# EAGLE library part LM293D (library LM293D)
Check availability <https://pricing.snapeda.com/parts/LM293D/Texas%20Instruments/view-part?ref=eda>
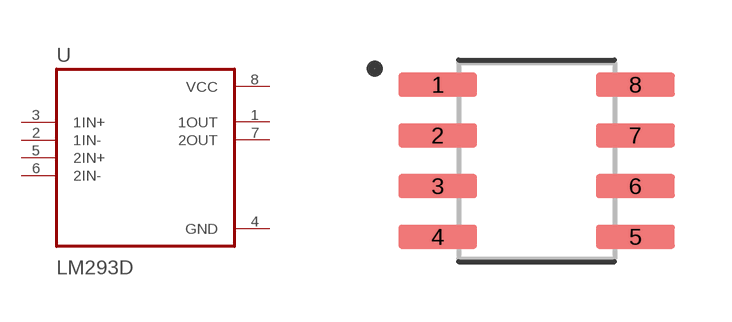
[diagram p0: symbol with the pads of SOIC127P599X175-8N; footprint SOIC127P599X175-8N]

Designator prefix U

## LM293D (Availability: In Stock; Description: Dual differential comparator, industrial grade; MF: Texas Instruments; MP: LM293D; Package: SOIC-8 Texas Instruments; Price: None; Purchase-URL: https://pricing.snapeda.com/search/part/LM293D/?ref=eda)  [SOIC127P599X175-8N]
1  1OUT  out
2  1IN-  in
3  1IN+  in
4  GND  pwr
5  2IN+  in
6  2IN-  in
7  2OUT  out
8  VCC  pwr

## Footprint SOIC127P599X175-8N (pad centres in mm)
smd 1.97 x 0.6: 1 -2.47,1.905; 2 -2.47,0.635; 3 -2.47,-0.635; 4 -2.47,-1.905; 5 2.47,-1.905; 6 2.47,-0.635; 7 2.47,0.635; 8 2.47,1.905